# EAGLE library part M06 (library _Part Repository)
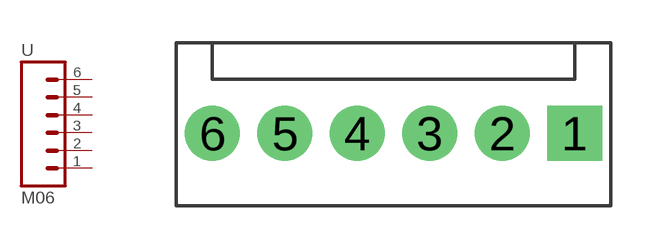
[diagram p0: symbol with the pads of A19433-ROUND; footprint A19433-ROUND]

Designator prefix -

## M06  [A19433-ROUND]
1  1  pas
2  2  pas
3  3  pas
4  4  pas
5  5  pas
6  6  pas

## Footprint A19433-ROUND (pad centres in mm)
drill 1.02 pad 1.93 square: 1 6.35,0
drill 1.02 pad 1.93 round: 2 3.81,0; 3 1.27,0; 4 -1.27,0; 5 -3.81,0; 6 -6.35,0